# Altium schematic symbol library net_ties.SchLib: 1 symbol
Pins are listed as number, name and electrical type; pins without a type are passive.

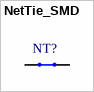
[diagram p0: symbol NetTie_SMD]

## NetTie_SMD
designator NT?  (value not drawn)  (net tie, no BOM)
Net Tie SMD
footprint NETTIE_SMD
pins: 1, 2